# Altium schematic symbol library STM811.SchLib: 1 symbol
Pins are listed as number, name and electrical type; pins without a type are passive.

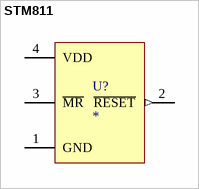
[diagram p0: symbol STM811]

## STM811
designator U?
STMICROELECTRONICS - STM811TW16F - MPU LOW RESET 3.08V, SOT-143-4, 811; farnell: 8690537
footprint STM811 (SOT143, 4-Leads, Body 3.0x2.6mm (max), Pitch 1.92mm, IPC Medium Density)
footprint STM811 (SOT143, 4-Leads, Body 3.0x2.6mm (max), Pitch 1.92mm, IPC Medium Density)
pins: 1 GND (power), 2 ~{RESET} (out), 3 ~{MR}, 4 VDD (power)